# Altium footprint library PcbLib1.PcbLib: 2 footprints
Each footprint in its own frame and in the unit in brackets; x right, y up, seen from the top. Pads: shape width x height; smd on the part's side, far side on the other; paste and mask are expansions set on the pad; w line width, h text height; cw(c..) or ccw(c..) is an arc to the next point about the centre after c.
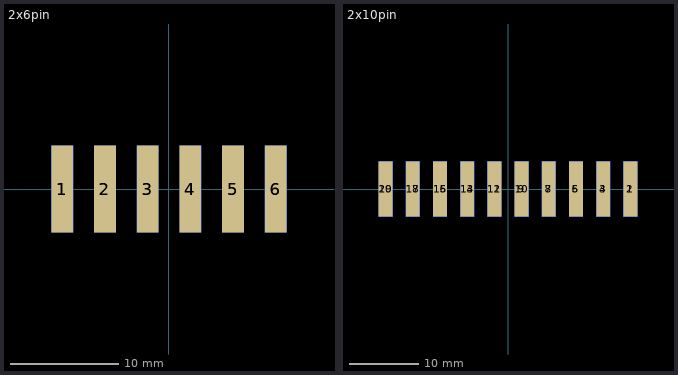
[diagram p0: the footprints below, top view; thin cyan lines are the x and y axes]

## 2x6pin [mm]
pads (12):
  rect 2x8 smd: 1(-9.85,0) 2(-5.91,0) 3(-1.97,0) 4(1.97,0) 5(5.91,0) 6(9.85,0)
  rect 2x8 smd far side: 1(-9.85,0) 2(-5.91,0) 3(-1.97,0) 4(1.97,0) 5(5.91,0) 6(9.85,0)

## 2x10pin [mm]
pads (20):
  rect 2x8 smd far side: 1(17.73,0) 3(13.79,0) 5(9.85,0) 7(5.91,0) 9(1.97,0) 11(-1.97,0) 13(-5.91,0) 15(-9.85,0) 17(-13.79,0) 19(-17.73,0)
  rect 2x8 smd: 2(17.73,0) 4(13.79,0) 6(9.85,0) 8(5.91,0) 10(1.97,0) 12(-1.97,0) 14(-5.91,0) 16(-9.85,0) 18(-13.79,0) 20(-17.73,0)